# Altium footprint library PMEG3050EP.PcbLib: 1 footprints
Each footprint in its own frame and in the unit in brackets; x right, y up, seen from the top. Pads: shape width x height; smd on the part's side, far side on the other; paste and mask are expansions set on the pad; w line width, h text height; cw(c..) or ccw(c..) is an arc to the next point about the centre after c.
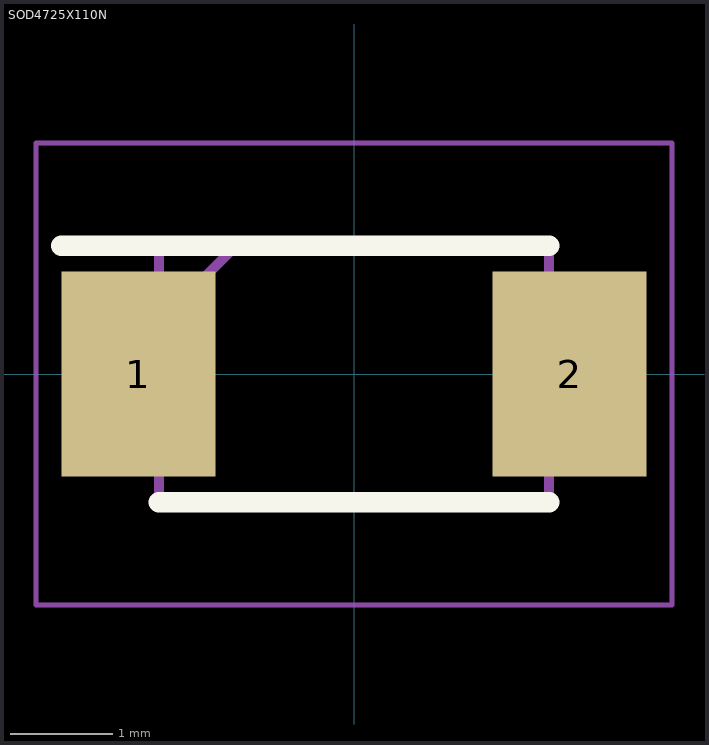
[diagram p0: the footprint, top view; thin cyan lines are the x and y axes]

## SOD4725X110N [mm]
pads (2):
  rect 1.5x2 smd: 1(-2.1,0) 2(2.1,0)
Top Overlay:
  lines w0.2: -2.85,1.25 1.9,1.25 ; -1.9,-1.25 1.9,-1.25
Mechanical 13:
  lines w0.1: -1.9,0.5 -1.15,1.25 ; -1.9,-1.25 -1.9,1.25 1.9,1.25 1.9,-1.25 -1.9,-1.25
Mechanical 15:
  lines w0.05: -3.1,-2.25 -3.1,2.25 3.1,2.25 3.1,-2.25 -3.1,-2.25
3D body "PMEG3050EP.stp": height 1.1, standoff 0, extent -1.9,-1.25 1.9,1.25